# Altium integrated library XT30&60.IntLib: 4 symbols
Pins are listed as number, name and electrical type; pins without a type are passive.

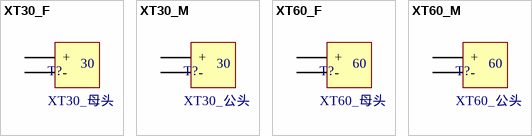
[diagram p0: symbols XT30_F to XT60_M]

## XT30_F
designator T?, comment XT30_母头
footprint XT30_卧式_母头
footprint XT30_立式_F (焊线式，非PCB专用接头)
pins: +, -
text: 30

## XT30_M
designator T?, comment XT30_公头
footprint XT30_卧式_公头
footprint XT30_立式_M (焊线式，非PCB专用接头)
pins: +, -
text: 30

## XT60_F
designator T?, comment XT60_母头
footprint XT60_卧式_母头
footprint XT60_立式
pins: +, -
text: 60

## XT60_M
designator T?, comment XT60_公头
footprint XT60_卧式_公头
footprint XT60_立式
pins: +, -
text: 60